# Altium footprint library CHXXX.pcblib: 120 footprints (part 1 of 8)
Each footprint in its own frame and in the unit in brackets; x right, y up, seen from the top. Pads: shape width x height; smd on the part's side, far side on the other; paste and mask are expansions set on the pad; w line width, h text height; cw(c..) or ccw(c..) is an arc to the next point about the centre after c.
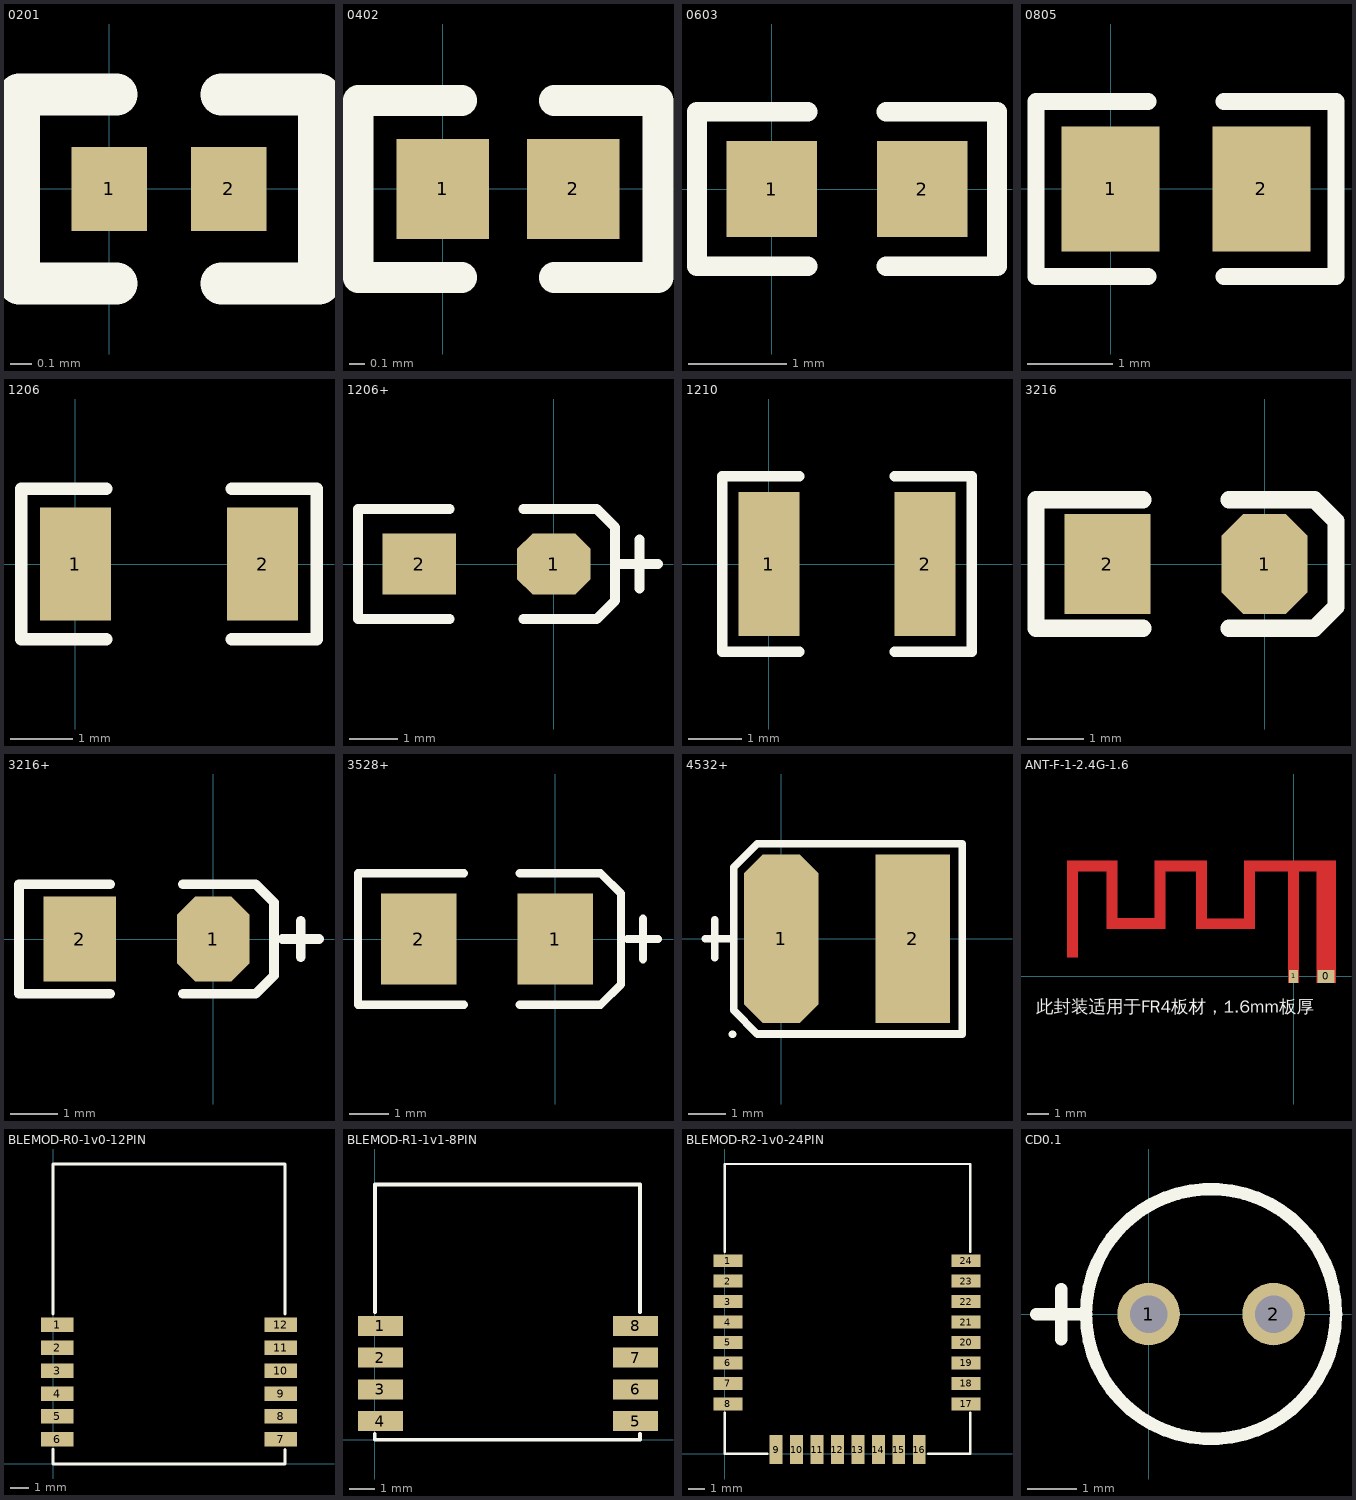
[diagram p0: the footprints below, top view; thin cyan lines are the x and y axes]

## 0201 [mm]
pads (2):
  rect 0.36x0.4 smd mask+0.051: 1(0,0) 2(0.57,0)
TopOverlay:
  lines w0.2: 0.035,-0.45 -0.43,-0.45 -0.43,0.45 0.035,0.45 ; 0.535,-0.45 1,-0.45 1,0.45 0.535,0.45

## 0402 [mm]
pads (2):
  rect 0.6x0.65 smd mask+0.051: 1(0,0) 2(0.85,0)
TopOverlay:
  lines w0.2: 0.125,-0.575 -0.55,-0.575 -0.55,0.575 0.125,0.575 ; 0.725,-0.575 1.4,-0.575 1.4,0.575 0.725,0.575

## 0603 [mm]
pads (2):
  rect 0.93x0.98 smd: 1(0,0) 2(1.54,0)
TopOverlay:
  lines w0.2: 0.37,-0.79 -0.765,-0.79 -0.765,0.79 0.37,0.79 ; 1.17,-0.79 2.305,-0.79 2.305,0.79 1.17,0.79

## 0805 [mm]
pads (2):
  rect 1.16x1.47 smd: 1(0,0) 2(1.78,0)
TopOverlay:
  lines w0.2: 0.44,-1.035 -0.88,-1.035 -0.88,1.035 0.44,1.035 ; 1.34,-1.035 2.66,-1.035 2.66,1.035 1.34,1.035

## 1206 [mm]
pads (2):
  rect 1.13x1.8 smd: 1(0,0) 2(2.98,0)
TopOverlay:
  lines w0.2: 0.49,-1.2 -0.865,-1.2 -0.865,1.2 0.49,1.2 ; 2.49,-1.2 3.845,-1.2 3.845,1.2 2.49,1.2

## 1206+ [mil]
pads (2):
  oct 60x50 smd: 1(0,0)
  rect 60x50 smd: 2(-110,0)
TopOverlay:
  lines w8: -85,-45 -160,-45 -160,45 -85,45 ; -25,-45 35,-45 50,-30 50,30 35,45 -25,45 ; 50,0 85,0 ; 70,-20 70,20

## 1210 [mm]
pads (2):
  rect 1.16x2.72 smd: 1(0,0) 2(2.95,0)
TopOverlay:
  lines w0.2: 0.575,-1.66 -0.88,-1.66 -0.88,1.66 0.575,1.66 ; 2.375,-1.66 3.83,-1.66 3.83,1.66 2.375,1.66

## 3216 [mil]
pads (2):
  oct 60x70 smd: 1(0,0)
  rect 60x70 smd: 2(-110,0)
TopOverlay:
  lines w12: -85,-45 -160,-45 -160,45 -85,45 ; -25,-45 35,-45 50,-30 50,30 35,45 -25,45

## 3216+ [mil]
pads (2):
  oct 60x70 smd: 1(0,0)
  rect 60x70 smd: 2(-110,0)
TopOverlay:
  lines w8: -85,-45 -160,-45 -160,45 -85,45 ; -25,-45 35,-45 50,-30 50,30 35,45 -25,45 ; 57.09,0 87.09,0 ; 71.97,-15 71.97,15

## 3528+ [mil]
pads (2):
  rect 75x90 smd: 1(0,0) 2(-135,0)
TopOverlay:
  lines w8: -90,-65 -195,-65 -195,65 -90,65 ; -35,-65 45,-65 65,-45 65,45 45,65 -35,65 ; 71.69,0 101.69,0 ; 86.97,-20 86.97,20

## 4532+ [mil]
pads (2):
  oct 78x177 smd: 1(0,0)
  rect 78x177 smd: 2(138,0)
TopOverlay:
  lines w8: -80,0 -50,0 ; -70,-20 -70,20 ; -51.18,-100.39 -51.18,-100.39 ; -50,-75 -25,-100 190,-100 190,100 -25,100 -50,75 -50,-75

## ANT-F-1-2.4G-1.6 [mm]
height 7
pads (2):
  rect 0.8x0.6 smd mask+0: 0(1.483,0)
  rect 0.4x0.6 smd mask+0: 1(0,0)
TopLayer:
  region: -9.86,4.976 -10.36,4.976 -10.36,0.856 -9.86,0.856
  region: -8.06,5.296 -10.36,5.296 -10.36,4.796 -8.06,4.796
  region: -8.06,4.977 -8.56,4.977 -8.56,2.157 -8.06,2.157
  region: -5.875,2.657 -8.364,2.657 -8.364,2.157 -5.875,2.157
  region: -5.86,4.977 -6.36,4.977 -6.36,2.157 -5.86,2.157
  region: -3.96,5.296 -6.36,5.296 -6.36,4.796 -3.96,4.796
  region: -3.96,4.976 -4.46,4.976 -4.46,2.156 -3.96,2.156
  region: -1.85,2.651 -4.39,2.651 -4.39,2.156 -1.85,2.156
  region: -1.76,4.977 -2.26,4.977 -2.26,2.157 -1.76,2.157
  region: 1.94,5.296 -2.26,5.296 -2.26,4.796 1.94,4.796
  region: 1.94,5.002 1.04,5.002 1.04,-0.304 1.94,-0.304
  region: 0.24,5.027 -0.26,5.027 -0.26,-0.304 0.24,-0.304
TopOverlay:
  text "此封装适用于FR4板材，1.6mm板厚" at -11.78,-1.882 h1
TopSolder:
  region: 0.24,5.027 -0.26,5.027 -0.26,-0.304 0.24,-0.304
  region: 1.94,5.002 1.04,5.002 1.04,-0.304 1.94,-0.304
  region: 1.94,5.296 -2.26,5.296 -2.26,4.796 1.94,4.796
  region: -1.76,4.977 -2.26,4.977 -2.26,2.157 -1.76,2.157
  region: -1.85,2.651 -4.39,2.651 -4.39,2.156 -1.85,2.156
  region: -3.96,4.976 -4.46,4.976 -4.46,2.156 -3.96,2.156
  region: -3.96,5.296 -6.36,5.296 -6.36,4.796 -3.96,4.796
  region: -5.86,4.977 -6.36,4.977 -6.36,2.157 -5.86,2.157
  region: -5.875,2.657 -8.364,2.657 -8.364,2.157 -5.875,2.157
  region: -8.06,4.977 -8.56,4.977 -8.56,2.157 -8.06,2.157
  region: -8.06,5.296 -10.36,5.296 -10.36,4.796 -8.06,4.796
  region: -9.86,4.976 -10.36,4.976 -10.36,0.856 -9.86,0.856

## BLEMOD-R0-1v0-12PIN [mm]
height 1.3
pads (12):
  rect 1.8x0.8 smd: 1(0.225,7.711) 2(0.225,6.441) 3(0.225,5.171) 4(0.225,3.901) 5(0.225,2.631) 6(0.225,1.361) 7(12.611,1.361) 8(12.611,2.631) 9(12.611,3.901) 10(12.611,5.171) 11(12.611,6.441) 12(12.611,7.711)
TopOverlay:
  lines w0.152: 0,0.822 0,0 12.835,0 12.835,0.796 ; 0,8.303 0,16.606 12.835,16.606 12.835,8.303

## BLEMOD-R1-1v1-8PIN [mm]
height 7
pads (8):
  rect 1.8x0.8 smd: 1(0.225,4.553) 2(0.225,3.283) 3(0.225,2.013) 4(0.225,0.743) 5(10.425,0.743) 6(10.425,2.013) 7(10.425,3.283) 8(10.425,4.553)
TopOverlay:
  lines w0.152: -0.008,0.233 -0.008,0 0,0 10.6,0 10.6,0.233 ; 0,5.108 0,10.215 10.6,10.215 10.6,5.108

## BLEMOD-R2-1v0-24PIN [mm]
pads (24):
  rect 1.8x0.8 smd: 1(0.192,12.005) 2(0.192,10.735) 3(0.192,9.465) 4(0.192,8.195) 5(0.192,6.925) 6(0.192,5.655) 7(0.192,4.385) 8(0.192,3.115) 17(14.981,3.115) 18(14.981,4.385) 19(14.981,5.655) 20(14.981,6.925) 21(14.981,8.195) 22(14.981,9.465) 23(14.981,10.735) 24(14.981,12.005)
  rect 0.8x1.8 smd: 9(3.183,0.275) 10(4.453,0.275) 11(5.723,0.275) 12(6.993,0.275) 13(8.263,0.275) 14(9.533,0.275) 15(10.803,0.275) 16(12.073,0.275)
TopOverlay:
  lines w0.152: 0,2.558 0,0 2.643,0 ; 0,12.559 0,18.015 15.256,18.015 15.256,12.564 ; 12.619,0 15.256,0 15.256,2.564

## CD0.1 [mil]
pads (2):
  round 50 hole 30: 1(0,0) 2(100,0)
TopOverlay:
  circle w10: c50,0 r100
  lines w10: -90,0 -50,0 ; -70,-20 -70,20